# EAGLE library part ATTINY85 (library currentlim)
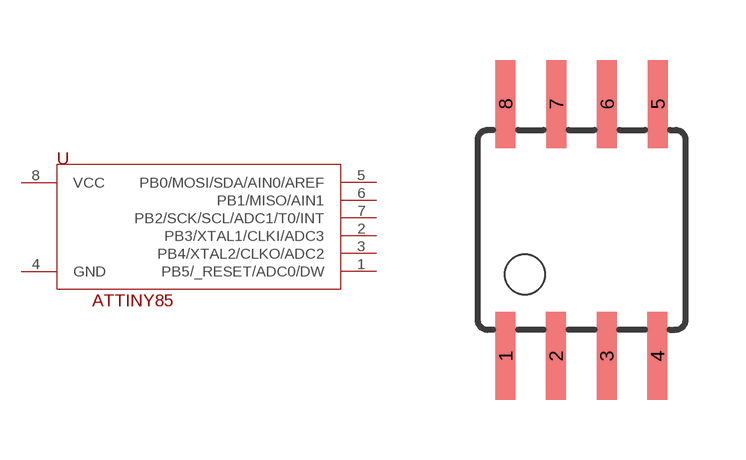
[diagram p0: symbol with the pads of SOIC8; footprint SOIC8]

Designator prefix -

## ATTINY85V-10SUR  [SOIC8]
1  PB5/_RESET/ADC0/DW
2  PB3/XTAL1/CLKI/ADC3
3  PB4/XTAL2/CLKO/ADC2
4  GND  pwr
5  PB0/MOSI/SDA/AIN0/AREF
6  PB1/MISO/AIN1
7  PB2/SCK/SCL/ADC1/T0/INT
8  VCC  pwr

## Footprint SOIC8 (pad centres in mm)
Wide Plastic Gull Wing Small Outline Package
smd 0.5 x 2.2: 1 -1.905,-3.154; 2 -0.645,-3.154; 3 0.625,-3.154; 4 1.895,-3.154; 5 1.905,3.154; 6 0.635,3.154; 7 -0.635,3.154; 8 -1.905,3.154